# Altium integrated library Analog Devices MEMS Inertial Sensors.IntLib: 109 symbols (part 2 of 6)
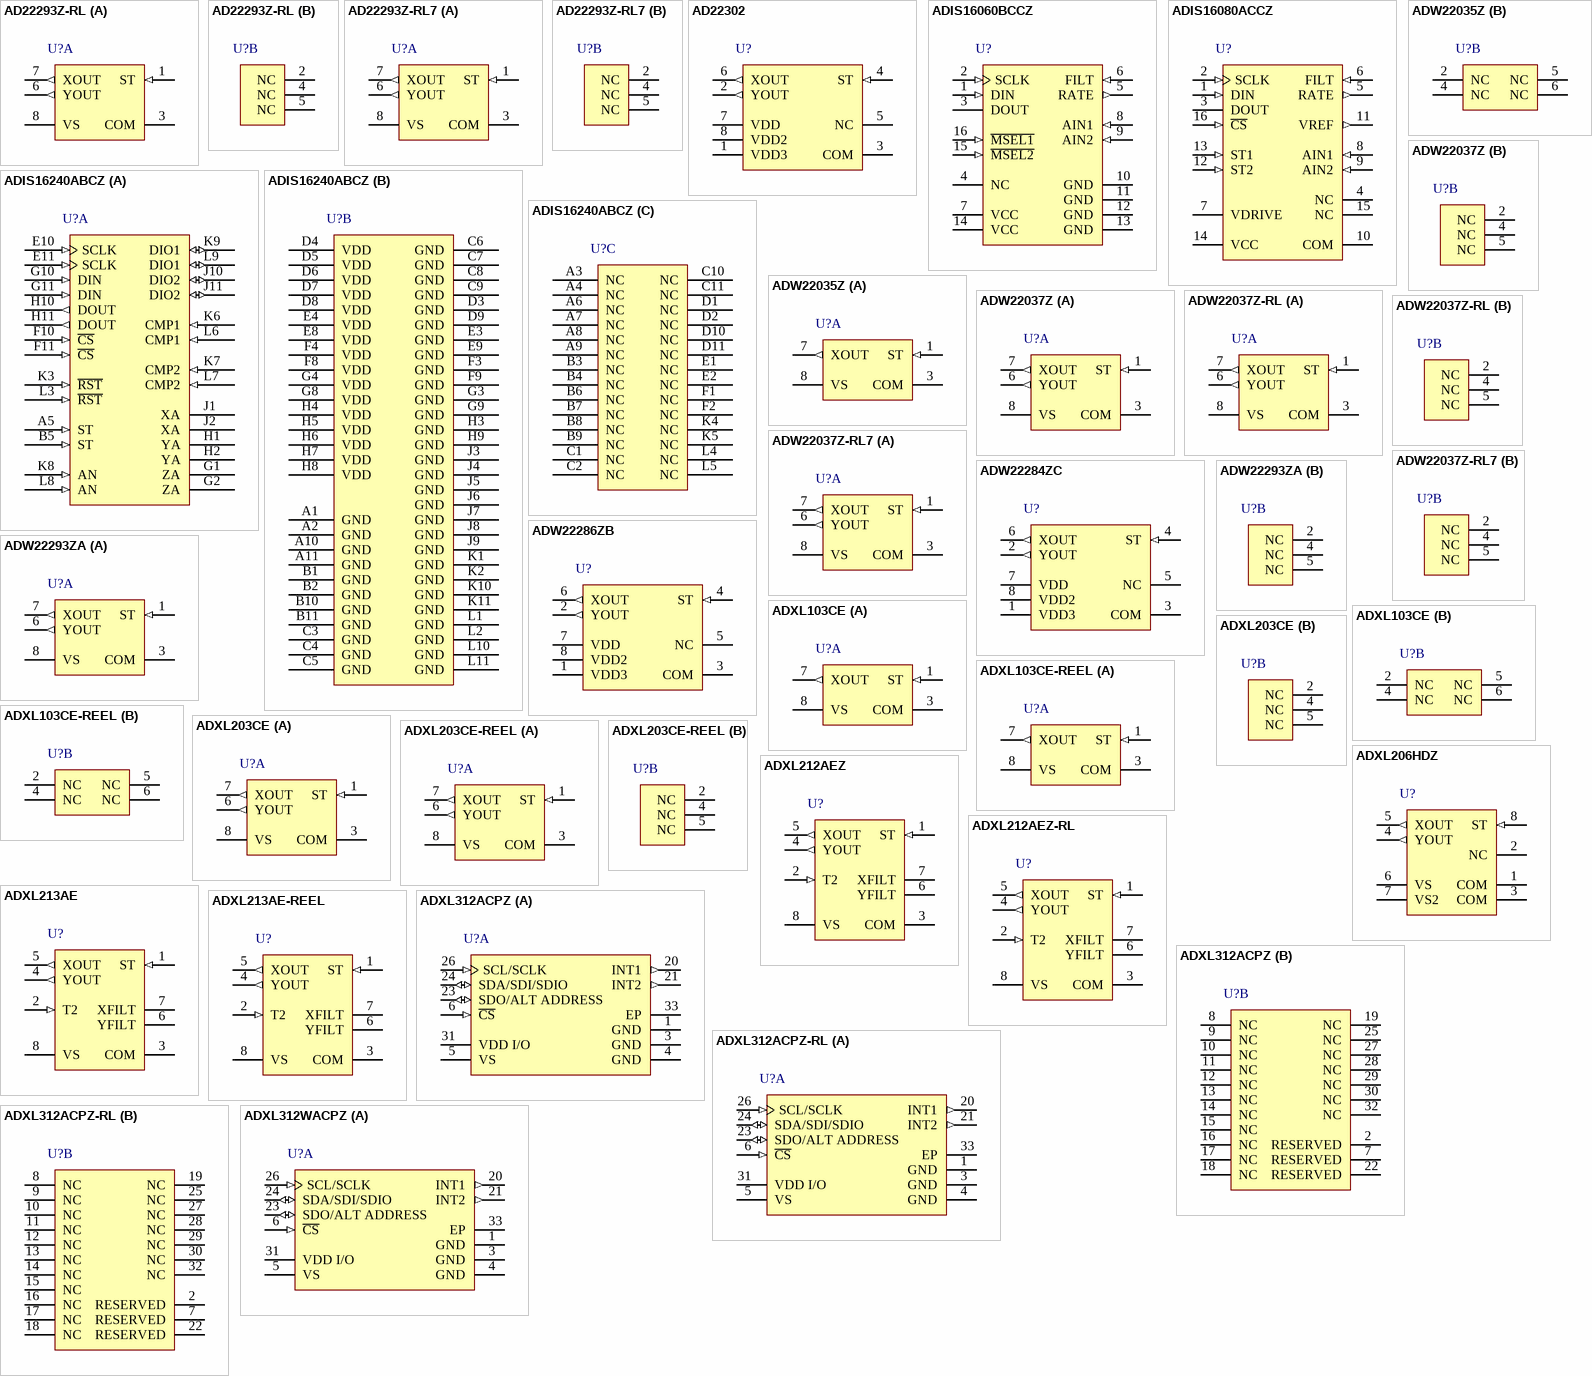
[diagram p6: symbols AD22293Z-RL to ADXL312WACPZ]

## ADIS16240ABCZ
designator U?
Low Power Programmable Impact Sensor and Recorder with SPI, 1.6 KHz BW, Industrial, 112-pin BGA, Tray; Manufacturer: Analog Devices; PartNumber: ADIS16240ABCZ; -3dB Bandwidth: 1.6 KHz; Output Type: Digital; Sensing Axis: X, Y, Z; Sensitivity: 51.4 mg/LSB; Voltage Supply (V): 2.4 to 3.6; DatasheetVersion: Rev. C; PackageVersion: Rev. C, 08/2012; PackageReference: BC-112-2; PackageDescription: 112-Ball Chip Scale Package Ball Grid Array, 12 x 12 mm Body, 1 mm Pitch; Supplier 1: Digi-Key; Supplier Part Number 1: ADIS16240ABCZ-ND; Supplier 2: Farnell; Supplier Part Number 2: 2124657; Supplier 3: Newark; Supplier Part Number 3: 08R6618; Supplier 4: Mouser; Supplier Part Number 4: 584-ADIS16240ABCZ; Packing: Tray; Mounting Technology: Surface Mount; Code_JEDEC: MO-192; ComponentLink1Description: Manufacturer URL; ComponentLink1URL: http://www.analog.com/en/index.html; ComponentLink2Description: Datasheet; ComponentLink2URL: http://www.analog.com/static/imported-files/data_sheets/ADIS16240.pdf; ComponentLink3Description: Package Specification; ComponentLink3URL: http://www.analog.com/static/imported-files/data_sheets/ADIS16240.pdf; ComponentLink4Description: Product URL; ComponentLink4URL: http://www.analog.com/en/mems-sensors/mems-inertial-sensors/adis16240/products/product.html
footprint ADI-BC-112-2 (BGA, 112-Balls, Body 12x12mm, Pitch 1mm)
part A pins: A5 ST (in) "Self-Test Input Control Line", B5 ST (in) "Self-Test Input Control Line", E10 SCLK (in) "SPI Serial Clock", E11 SCLK (in) "SPI Serial Clock", F10 ~{CS} (in) "SPI Chip Select, Active Low", F11 ~{CS} (in) "SPI Chip Select, Active Low", G1 ZA "Z-Axis Accelerometer Filter Pin", G2 ZA "Z-Axis Accelerometer Filter Pin", G10 DIN (in) "SPI Data Input", G11 DIN (in) "SPI Data Input", H1 YA "Y-Axis Accelerometer Filter Pin", H2 YA "Y-Axis Accelerometer Filter Pin", H10 DOUT (out) "SPI Data Output", H11 DOUT (out) "SPI Data Output", J1 XA "X-Axis Accelerometer Filter Pin", J2 XA "X-Axis Accelerometer Filter Pin", J10 DIO2 (io) "Multifunction Digital Input/Output 2", J11 DIO2 (io) "Multifunction Digital Input/Output 2", K3 ~{RST} (in) "Reset, Active Low, No Pull-Up Resistor", K6 CMP1 (in) "Analog Comparator Input 1", K7 CMP2 (in) "Analog Comparator Input 2", K8 AN (in) "Analog Input Channel", K9 DIO1 (io) "Multifunction Digital Input/Output 1", L3 ~{RST} (in) "Reset, Active Low, No Pull-Up Resistor", L6 CMP1 (in) "Analog Comparator Input 1", L7 CMP2 (in) "Analog Comparator Input 2", L8 AN (in) "Analog Input Channel", L9 DIO1 (io) "Multifunction Digital Input/Output 1"
part B pins: A1 GND (power) "Ground", A2 GND (power) "Ground", A10 GND (power) "Ground", A11 GND (power) "Ground", B1 GND (power) "Ground", B2 GND (power) "Ground", B10 GND (power) "Ground", B11 GND (power) "Ground", C3 GND (power) "Ground", C4 GND (power) "Ground", C5 GND (power) "Ground", C6 GND (power) "Ground", C7 GND (power) "Ground", C8 GND (power) "Ground", C9 GND (power) "Ground", D3 GND (power) "Ground", D4 VDD (power) "Power Supply, 3.3 V", D5 VDD (power) "Power Supply, 3.3 V", D6 VDD (power) "Power Supply, 3.3 V", D7 VDD (power) "Power Supply, 3.3 V", D8 VDD (power) "Power Supply, 3.3 V", D9 GND (power) "Ground", E3 GND (power) "Ground", E4 VDD (power) "Power Supply, 3.3 V", E8 VDD (power) "Power Supply, 3.3 V", E9 GND (power) "Ground", F3 GND (power) "Ground", F4 VDD (power) "Power Supply, 3.3 V", F8 VDD (power) "Power Supply, 3.3 V", F9 GND (power) "Ground", G3 GND (power) "Ground", G4 VDD (power) "Power Supply, 3.3 V", G8 VDD (power) "Power Supply, 3.3 V", G9 GND (power) "Ground", H3 GND (power) "Ground", H4 VDD (power) "Power Supply, 3.3 V", H5 VDD (power) "Power Supply, 3.3 V", H6 VDD (power) "Power Supply, 3.3 V", H7 VDD (power) "Power Supply, 3.3 V", H8 VDD (power) "Power Supply, 3.3 V", H9 GND (power) "Ground", J3 GND (power) "Ground", J4 GND (power) "Ground", J5 GND (power) "Ground", J6 GND (power) "Ground", J7 GND (power) "Ground", J8 GND (power) "Ground", J9 GND (power) "Ground", K1 GND (power) "Ground", K2 GND (power) "Ground", K10 GND (power) "Ground", K11 GND (power) "Ground", L1 GND (power) "Ground", L2 GND (power) "Ground", L10 GND (power) "Ground", L11 GND (power) "Ground"
part C pins: A3 NC "No Connect", A4 NC "No Connect", A6 NC "No Connect", A7 NC "No Connect", A8 NC "No Connect", A9 NC "No Connect", B3 NC "No Connect", B4 NC "No Connect", B6 NC "No Connect", B7 NC "No Connect", B8 NC "No Connect", B9 NC "No Connect", C1 NC "No Connect", C2 NC "No Connect", C10 NC "No Connect", C11 NC "No Connect", D1 NC "No Connect", D2 NC "No Connect", D10 NC "No Connect", D11 NC "No Connect", E1 NC "No Connect", E2 NC "No Connect", F1 NC "No Connect", F2 NC "No Connect", K4 NC "No Connect", K5 NC "No Connect", L4 NC "No Connect", L5 NC "No Connect"

## ADW22035Z
designator U?
Precision +/-18 g Single-Axis iMEMS(R) Accelerometer with Analog Output, 2.5 KHz BW, Industrial, 8-pin LCC, Tube; Manufacturer: Analog Devices; PartNumber: ADW22035Z; # of Axes: 1; -3dB Bandwidth: 2.5 KHz; Automotive Qualified: Yes; Sensitivity: 100 mV/g; Supply Current: 700 uA; Voltage Supply (V): 3 to 6; DatasheetVersion: Rev. D; PackageVersion: 05-21-2010-D, 05/2010; PackageReference: E-8-1; PackageDescription: 8-Pin Ceramic Leadless Chip Carrier, 5 x 5 mm Body, 1.27 mm Pitch; Supplier 1: Mouser; Supplier Part Number 1: N/A; Output Type: Analog; Packing: Tube; Mounting Technology: Surface Mount; ComponentLink1Description: Manufacturer URL; ComponentLink1URL: http://www.analog.com/en/index.html; ComponentLink2Description: Datasheet; ComponentLink2URL: http://www.analog.com/static/imported-files/data_sheets/ADXL103_203.pdf; ComponentLink3Description: Package Specification; ComponentLink3URL: http:/www.analog.com/static/imported-files/packages/PKG_PDF/LCC(E)/E_8_1.pdf; ComponentLink4Description: Product URL; ComponentLink4URL: http://www.analog.com/en/mems-sensors/mems-inertial-sensors/adxl103/products/product.html
footprint ADI-E-8-1_V (LCC, 8-Leads, Body 5x5mm, Pitch 1.27mm)
part A pins: 1 ST (in) "Self Test", 3 COM (power) "Common", 7 XOUT (out) "X Channel Output", 8 VS (power) "3 V to 6 V"
part B pins: 2 NC "Do Not Connect", 4 NC "Do Not Connect", 5 NC "Do Not Connect", 6 NC "Do Not Connect"

## ADW22037Z
designator U?
Precision +/-18 g Dual-Axis iMEMS(R) Accelerometer with Analog Output, 2.5 KHz BW, Industrial, 8-pin LCC, Tube; Manufacturer: Analog Devices; PartNumber: ADW22037Z; # of Axes: 2; -3dB Bandwidth: 2.5 KHz; Sensitivity: 100 mV/g; Supply Current: 700 uA; Voltage Supply (V): 3 to 6; DatasheetVersion: Rev. D; PackageVersion: 05-21-2010-D, 05/2010; PackageReference: E-8-1; PackageDescription: 8-Pin Ceramic Leadless Chip Carrier, 5 x 5 mm Body, 1.27 mm Pitch; Supplier 1: Mouser; Supplier Part Number 1: N/A; Output Type: Analog; Packing: Tube; Mounting Technology: Surface Mount; ComponentLink1Description: Manufacturer URL; ComponentLink1URL: http://www.analog.com/en/index.html; ComponentLink2Description: Datasheet; ComponentLink2URL: http://www.analog.com/static/imported-files/data_sheets/ADXL103_203.pdf; ComponentLink3Description: Package Specification; ComponentLink3URL: http:/www.analog.com/static/imported-files/packages/PKG_PDF/LCC(E)/E_8_1.pdf; ComponentLink4Description: Product URL; ComponentLink4URL: http://www.analog.com/en/mems-sensors/mems-inertial-sensors/adxl203/products/product.html
footprint ADI-E-8-1_V (LCC, 8-Leads, Body 5x5mm, Pitch 1.27mm)
part A pins: 1 ST (in) "Self Test", 3 COM (power) "Common", 6 YOUT (out) "Y Channel Output", 7 XOUT (out) "X Channel Output", 8 VS (power) "3 V to 6 V"
part B pins: 2 NC "Do Not Connect", 4 NC "Do Not Connect", 5 NC "Do Not Connect"

## ADW22037Z-RL
designator U?
Precision +/-18 g Dual-Axis iMEMS(R) Accelerometer with Analog Output, 2.5 KHz BW, Industrial, 8-pin LCC, Reel; Manufacturer: Analog Devices; PartNumber: ADW22037Z-RL; # of Axes: 2; -3dB Bandwidth: 2.5 KHz; Sensitivity: 100 mV/g; Supply Current: 700 uA; Voltage Supply (V): 3 to 6; DatasheetVersion: Rev. D; PackageVersion: 05-21-2010-D, 05/2010; PackageReference: E-8-1; PackageDescription: 8-Pin Ceramic Leadless Chip Carrier, 5 x 5 mm Body, 1.27 mm Pitch; Supplier 1: Mouser; Supplier Part Number 1: N/A; Output Type: Analog; Packing: Reel; Mounting Technology: Surface Mount; ComponentLink1Description: Manufacturer URL; ComponentLink1URL: http://www.analog.com/en/index.html; ComponentLink2Description: Datasheet; ComponentLink2URL: http://www.analog.com/static/imported-files/data_sheets/ADXL103_203.pdf; ComponentLink3Description: Package Specification; ComponentLink3URL: http:/www.analog.com/static/imported-files/packages/PKG_PDF/LCC(E)/E_8_1.pdf; ComponentLink4Description: Product URL; ComponentLink4URL: http://www.analog.com/en/mems-sensors/mems-inertial-sensors/adxl203/products/product.html
footprint ADI-E-8-1_V (LCC, 8-Leads, Body 5x5mm, Pitch 1.27mm)
part A pins: 1 ST (in) "Self Test", 3 COM (power) "Common", 6 YOUT (out) "Y Channel Output", 7 XOUT (out) "X Channel Output", 8 VS (power) "3 V to 6 V"
part B pins: 2 NC "Do Not Connect", 4 NC "Do Not Connect", 5 NC "Do Not Connect"

## ADW22037Z-RL7
designator U?
Precision +/-18 g Dual-Axis iMEMS(R) Accelerometer with Analog Output, 2.5 KHz BW, Industrial, 8-pin LCC, Reel; Manufacturer: Analog Devices; PartNumber: ADW22037Z-RL7; # of Axes: 2; -3dB Bandwidth: 2.5 KHz; Sensitivity: 100 mV/g; Supply Current: 700 uA; Voltage Supply (V): 3 to 6; DatasheetVersion: Rev. D; PackageVersion: 05-21-2010-D, 05/2010; PackageReference: E-8-1; PackageDescription: 8-Pin Ceramic Leadless Chip Carrier, 5 x 5 mm Body, 1.27 mm Pitch; Supplier 1: Mouser; Supplier Part Number 1: N/A; Output Type: Analog; Packing: Reel; Mounting Technology: Surface Mount; ComponentLink1Description: Manufacturer URL; ComponentLink1URL: http://www.analog.com/en/index.html; ComponentLink2Description: Datasheet; ComponentLink2URL: http://www.analog.com/static/imported-files/data_sheets/ADXL103_203.pdf; ComponentLink3Description: Package Specification; ComponentLink3URL: http:/www.analog.com/static/imported-files/packages/PKG_PDF/LCC(E)/E_8_1.pdf; ComponentLink4Description: Product URL; ComponentLink4URL: http://www.analog.com/en/mems-sensors/mems-inertial-sensors/adxl203/products/product.html
footprint ADI-E-8-1_V (LCC, 8-Leads, Body 5x5mm, Pitch 1.27mm)
part A pins: 1 ST (in) "Self Test", 3 COM (power) "Common", 6 YOUT (out) "Y Channel Output", 7 XOUT (out) "X Channel Output", 8 VS (power) "3 V to 6 V"
part B pins: 2 NC "Do Not Connect", 4 NC "Do Not Connect", 5 NC "Do Not Connect"

## ADW22284ZC
designator U?
Small, Low Power, Dual-Axis High-g, IMEMS(R) Accelerometer with Analog Output, 400 Hz BW, Industrial, 8-pin LCC, Reel; Manufacturer: Analog Devices; PartNumber: ADW22284ZC; # of Axes: 2; -3dB Bandwidth: 400 Hz; Automotive Qualified: Yes; Sensitivity: 55 mV/g; Supply Current: 2.2 mA; Voltage Supply (V): 4.75 to 5.25; DatasheetVersion: Rev. B; PackageVersion: 05-21-2010-D, 05/2010; PackageReference: E-8-1; PackageDescription: 8-Pin Ceramic Leadless Chip Carrier, 5 x 5 mm Body, 1.27 mm Pitch; Supplier 1: Mouser; Supplier Part Number 1: N/A; Output Type: Analog; Packing: Reel; Mounting Technology: Surface Mount; ComponentLink1Description: Manufacturer URL; ComponentLink1URL: http://www.analog.com/en/index.html; ComponentLink2Description: Datasheet; ComponentLink2URL: http://www.analog.com/static/imported-files/data_sheets/ADXL278.pdf; ComponentLink3Description: Package Specification; ComponentLink3URL: http:/www.analog.com/static/imported-files/packages/PKG_PDF/LCC(E)/E_8_1.pdf; ComponentLink4Description: Product URL; ComponentLink4URL: http://www.analog.com/en/mems-sensors/mems-inertial-sensors/adxl278/products/product.html
footprint ADI-E-8-1_V (LCC, 8-Leads, Body 5x5mm, Pitch 1.27mm)
pins: 1 VDD3 (power) "3.5 V to 6 V", 2 YOUT (out) "Y Channel Output", 3 COM (power) "Common", 4 ST (in) "Self-Test", 5 NC "Do Not Connect", 6 XOUT (out) "X Channel Output", 7 VDD (power) "3.5 V to 6 V", 8 VDD2 (power) "3.5 V to 6 V"

## ADW22286ZB
designator U?
Small, Low Power, Dual-Axis High-g, IMEMS(R) Accelerometer with Analog Output, 400 Hz BW, Industrial, 8-pin LCC, Reel; Manufacturer: Analog Devices; PartNumber: ADW22286ZB; # of Axes: 2; -3dB Bandwidth: 400 Hz; Automotive Qualified: Yes; Sensitivity: 27 mV/g; Supply Current: 2.2 mA; Voltage Supply (V): 4.75 to 5.25; DatasheetVersion: Rev. B; PackageVersion: 05-21-2010-D, 05/2010; PackageReference: E-8-1; PackageDescription: 8-Pin Ceramic Leadless Chip Carrier, 5 x 5 mm Body, 1.27 mm Pitch; Supplier 1: Mouser; Supplier Part Number 1: N/A; Output Type: Analog; Packing: Reel; Mounting Technology: Surface Mount; ComponentLink1Description: Manufacturer URL; ComponentLink1URL: http://www.analog.com/en/index.html; ComponentLink2Description: Datasheet; ComponentLink2URL: http://www.analog.com/static/imported-files/data_sheets/ADXL278.pdf; ComponentLink3Description: Package Specification; ComponentLink3URL: http:/www.analog.com/static/imported-files/packages/PKG_PDF/LCC(E)/E_8_1.pdf; ComponentLink4Description: Product URL; ComponentLink4URL: http://www.analog.com/en/mems-sensors/mems-inertial-sensors/adxl278/products/product.html
footprint ADI-E-8-1_V (LCC, 8-Leads, Body 5x5mm, Pitch 1.27mm)
pins: 1 VDD3 (power) "3.5 V to 6 V", 2 YOUT (out) "Y Channel Output", 3 COM (power) "Common", 4 ST (in) "Self-Test", 5 NC "Do Not Connect", 6 XOUT (out) "X Channel Output", 7 VDD (power) "3.5 V to 6 V", 8 VDD2 (power) "3.5 V to 6 V"

## ADW22293ZA
designator U?
Precision +/-5 g Dual-Axis iMEMS(R) Accelerometer with Analog Output, 2.5 KHz BW, Industrial, 8-pin LCC, Reel; Manufacturer: Analog Devices; PartNumber: ADW22293ZA; # of Axes: 2; -3dB Bandwidth: 2.5 KHz; Sensitivity: 312 mV/g; Supply Current: 700 uA; Voltage Supply (V): 3 to 6; DatasheetVersion: Rev. D; PackageVersion: 05-21-2010-D, 05/2010; PackageReference: E-8-1; PackageDescription: 8-Pin Ceramic Leadless Chip Carrier, 5 x 5 mm Body, 1.27 mm Pitch; Supplier 1: Mouser; Supplier Part Number 1: N/A; Output Type: Analog; Packing: Reel; Mounting Technology: Surface Mount; ComponentLink1Description: Manufacturer URL; ComponentLink1URL: http://www.analog.com/en/index.html; ComponentLink2Description: Datasheet; ComponentLink2URL: http://www.analog.com/static/imported-files/data_sheets/ADXL103_203.pdf; ComponentLink3Description: Package Specification; ComponentLink3URL: http:/www.analog.com/static/imported-files/packages/PKG_PDF/LCC(E)/E_8_1.pdf; ComponentLink4Description: Product URL; ComponentLink4URL: http://www.analog.com/en/mems-sensors/mems-inertial-sensors/adxl203/products/product.html
footprint ADI-E-8-1_V (LCC, 8-Leads, Body 5x5mm, Pitch 1.27mm)
part A pins: 1 ST (in) "Self Test", 3 COM (power) "Common", 6 YOUT (out) "Y Channel Output", 7 XOUT (out) "X Channel Output", 8 VS (power) "3 V to 6 V"
part B pins: 2 NC "Do Not Connect", 4 NC "Do Not Connect", 5 NC "Do Not Connect"

## ADXL103CE
designator U?
Precision +/-1.7 g Single-Axis iMEMS(R) Accelerometer with Analog Output, 2.5 KHz BW, Industrial, 8-pin LCC, Tube; Manufacturer: Analog Devices; PartNumber: ADXL103CE; # of Axes: 1; -3dB Bandwidth: 2.5 KHz; Automotive Qualified: Yes; Sensitivity: 1000 mV/g; Supply Current: 700 uA; Voltage Supply (V): 3 to 6; DatasheetVersion: Rev. D; PackageVersion: 05-21-2010-D, 05/2010; PackageReference: E-8-1; PackageDescription: 8-Pin Ceramic Leadless Chip Carrier, 5 x 5 mm Body, 1.27 mm Pitch; Supplier 1: Digi-Key; Supplier Part Number 1: ADXL103CE-ND; Supplier 2: Newark; Supplier Part Number 2: 19M8780; Supplier 3: Mouser; Supplier Part Number 3: 584-ADXL103CE; Output Type: Analog; Packing: Tube; Mounting Technology: Surface Mount; ComponentLink1Description: Manufacturer URL; ComponentLink1URL: http://www.analog.com/en/index.html; ComponentLink2Description: Datasheet; ComponentLink2URL: http://www.analog.com/static/imported-files/data_sheets/ADXL103_203.pdf; ComponentLink3Description: Package Specification; ComponentLink3URL: http:/www.analog.com/static/imported-files/packages/PKG_PDF/LCC(E)/E_8_1.pdf; ComponentLink4Description: Product URL; ComponentLink4URL: http://www.analog.com/en/mems-sensors/mems-inertial-sensors/adxl103/products/product.html
footprint ADI-E-8-1_V (LCC, 8-Leads, Body 5x5mm, Pitch 1.27mm)
part A pins: 1 ST (in) "Self Test", 3 COM (power) "Common", 7 XOUT (out) "X Channel Output", 8 VS (power) "3 V to 6 V"
part B pins: 2 NC "Do Not Connect", 4 NC "Do Not Connect", 5 NC "Do Not Connect", 6 NC "Do Not Connect"

## ADXL103CE-REEL
designator U?
Precision +/-1.7 g Single-Axis iMEMS(R) Accelerometer with Analog Output, 2.5 KHz BW, Industrial, 8-pin LCC, Reel; Manufacturer: Analog Devices; PartNumber: ADXL103CE-REEL; # of Axes: 1; -3dB Bandwidth: 2.5 KHz; Automotive Qualified: Yes; Sensitivity: 1000 mV/g; Supply Current: 700 uA; Voltage Supply (V): 3 to 6; DatasheetVersion: Rev. D; PackageVersion: 05-21-2010-D, 05/2010; PackageReference: E-8-1; PackageDescription: 8-Pin Ceramic Leadless Chip Carrier, 5 x 5 mm Body, 1.27 mm Pitch; Supplier 1: Digi-Key; Supplier Part Number 1: ADXL103CE-REELTR-ND; Supplier 2: Digi-Key; Supplier Part Number 2: ADXL103CE-REELCT-ND; Supplier 3: Digi-Key; Supplier Part Number 3: ADXL103CE-REELDKR-ND; Supplier 4: Newark; Supplier Part Number 4: 59K3368; Supplier 5: Mouser; Supplier Part Number 5: 584-ADXL103CE-R; Output Type: Analog; Packing: Reel; Mounting Technology: Surface Mount; ComponentLink1Description: Manufacturer URL; ComponentLink1URL: http://www.analog.com/en/index.html; ComponentLink2Description: Datasheet; ComponentLink2URL: http://www.analog.com/static/imported-files/data_sheets/ADXL103_203.pdf; ComponentLink3Description: Package Specification; ComponentLink3URL: http:/www.analog.com/static/imported-files/packages/PKG_PDF/LCC(E)/E_8_1.pdf; ComponentLink4Description: Product URL; ComponentLink4URL: http://www.analog.com/en/mems-sensors/mems-inertial-sensors/adxl103/products/product.html
footprint ADI-E-8-1_V (LCC, 8-Leads, Body 5x5mm, Pitch 1.27mm)
part A pins: 1 ST (in) "Self Test", 3 COM (power) "Common", 7 XOUT (out) "X Channel Output", 8 VS (power) "3 V to 6 V"
part B pins: 2 NC "Do Not Connect", 4 NC "Do Not Connect", 5 NC "Do Not Connect", 6 NC "Do Not Connect"

## ADXL203CE
designator U?
Precision +/-1.7 g Dual-Axis iMEMS(R) Accelerometer with Analog Output, 2.5 KHz BW, Industrial, 8-pin LCC, Tube; Manufacturer: Analog Devices; PartNumber: ADXL203CE; # of Axes: 2; -3dB Bandwidth: 2.5 KHz; Sensitivity: 1000 mV/g; Supply Current: 700 uA; Voltage Supply (V): 3 to 6; DatasheetVersion: Rev. D; PackageVersion: 05-21-2010-D, 05/2010; PackageReference: E-8-1; PackageDescription: 8-Pin Ceramic Leadless Chip Carrier, 5 x 5 mm Body, 1.27 mm Pitch; Supplier 1: Digi-Key; Supplier Part Number 1: ADXL203CE-ND; Supplier 2: Farnell; Supplier Part Number 2: 2102538; Supplier 3: Newark; Supplier Part Number 3: 30M0177; Supplier 4: Mouser; Supplier Part Number 4: 584-ADXL203CE; Output Type: Analog; Packing: Tube; Mounting Technology: Surface Mount; ComponentLink1Description: Manufacturer URL; ComponentLink1URL: http://www.analog.com/en/index.html; ComponentLink2Description: Datasheet; ComponentLink2URL: http://www.analog.com/static/imported-files/data_sheets/ADXL103_203.pdf; ComponentLink3Description: Package Specification; ComponentLink3URL: http:/www.analog.com/static/imported-files/packages/PKG_PDF/LCC(E)/E_8_1.pdf; ComponentLink4Description: Product URL; ComponentLink4URL: http://www.analog.com/en/mems-sensors/mems-inertial-sensors/adxl203/products/product.html
footprint ADI-E-8-1_V (LCC, 8-Leads, Body 5x5mm, Pitch 1.27mm)
part A pins: 1 ST (in) "Self Test", 3 COM (power) "Common", 6 YOUT (out) "Y Channel Output", 7 XOUT (out) "X Channel Output", 8 VS (power) "3 V to 6 V"
part B pins: 2 NC "Do Not Connect", 4 NC "Do Not Connect", 5 NC "Do Not Connect"

## ADXL203CE-REEL
designator U?
Precision +/-1.7 g Dual-Axis iMEMS(R) Accelerometer with Analog Output, 2.5 KHz BW, Industrial, 8-pin LCC, Reel; Manufacturer: Analog Devices; PartNumber: ADXL203CE-REEL; # of Axes: 2; -3dB Bandwidth: 2.5 KHz; Sensitivity: 1000 mV/g; Supply Current: 700 uA; Voltage Supply (V): 3 to 6; DatasheetVersion: Rev. D; PackageVersion: 05-21-2010-D, 05/2010; PackageReference: E-8-1; PackageDescription: 8-Pin Ceramic Leadless Chip Carrier, 5 x 5 mm Body, 1.27 mm Pitch; Supplier 1: Digi-Key; Supplier Part Number 1: ADXL203CE-REELTR-ND; Supplier 2: Digi-Key; Supplier Part Number 2: ADXL203CE-REELCT-ND; Supplier 3: Digi-Key; Supplier Part Number 3: ADXL203CE-REELDKR-ND; Supplier 4: Newark; Supplier Part Number 4: 59K3369; Supplier 5: Mouser; Supplier Part Number 5: 584-ADXL203CE-R; Output Type: Analog; Packing: Reel; Mounting Technology: Surface Mount; ComponentLink1Description: Manufacturer URL; ComponentLink1URL: http://www.analog.com/en/index.html; ComponentLink2Description: Datasheet; ComponentLink2URL: http://www.analog.com/static/imported-files/data_sheets/ADXL103_203.pdf; ComponentLink3Description: Package Specification; ComponentLink3URL: http:/www.analog.com/static/imported-files/packages/PKG_PDF/LCC(E)/E_8_1.pdf; ComponentLink4Description: Product URL; ComponentLink4URL: http://www.analog.com/en/mems-sensors/mems-inertial-sensors/adxl203/products/product.html
footprint ADI-E-8-1_V (LCC, 8-Leads, Body 5x5mm, Pitch 1.27mm)
part A pins: 1 ST (in) "Self Test", 3 COM (power) "Common", 6 YOUT (out) "Y Channel Output", 7 XOUT (out) "X Channel Output", 8 VS (power) "3 V to 6 V"
part B pins: 2 NC "Do Not Connect", 4 NC "Do Not Connect", 5 NC "Do Not Connect"

## ADXL206HDZ
designator U?
Precision +/-5 g Dual-Axis High Temperature iMEMS Accelerometer with Analog Output, 2.5 KHz BW, Industrial, 8-pin DIP, Tube; Manufacturer: Analog Devices; PartNumber: ADXL206HDZ; # of Axes: 2; -3dB Bandwidth: 2.5 KHz; Sensitivity: 312 mV/g; Supply Current: 700 uA; Voltage Supply (V): 4.75 to 5.25; DatasheetVersion: Rev. 0; PackageVersion: 07-08-2010-B, 07/2010; PackageReference: D-8-1; PackageDescription: 8-Pin Side-Brazed Ceramic Dual In-Line Package, Row spacing 7.62 mm, 13.208 x 7.366 mm Body, 2.54 mm Pitch; Supplier 1: Digi-Key; Supplier Part Number 1: ADXL206HDZ-ND; Supplier 2: Farnell; Supplier Part Number 2: 1903661; Supplier 3: Newark; Supplier Part Number 3: 47T4682; Supplier 4: Mouser; Supplier Part Number 4: 584-ADXL206HDZ; Output Type: Analog; Packing: Tube; Mounting Technology: Through Hole; ComponentLink1Description: Manufacturer URL; ComponentLink1URL: http://www.analog.com/en/index.html; ComponentLink2Description: Datasheet; ComponentLink2URL: http://www.analog.com/static/imported-files/data_sheets/ADXL206.PDF; ComponentLink3Description: Package Specification; ComponentLink3URL: http://www.analog.com/static/imported-files/packages/PKG_PDF/SB_CerDip(D)/D_8_1.pdf; ComponentLink4Description: Product URL; ComponentLink4URL: http://www.analog.com/en/mems-sensors/mems-inertial-sensors/adxl206/products/product.html
footprint ADI-D-8-1 (DIP, 8-Leads, Body 13.208x7.366mm, Pitch 2.54mm)
pins: 1 COM (power) "Common.", 2 NC "No Connect. Do not connect to this pin.", 3 COM (power) "Common.", 4 YOUT (out) "Y Channel Output.", 5 XOUT (out) "X Channel Output.", 6 VS (power) "Supply.", 7 VS2 (power) "Supply. Must be connected to VS.", 8 ST (in) "Self-Test."

## ADXL212AEZ
designator U?
Low Cost +/-2 g Dual Axis Accelerometer with Digital Output, 500 Hz BW, Industrial, 8-pin LCC, Tube; Manufacturer: Analog Devices; PartNumber: ADXL212AEZ; # of Axes: 2; -3dB Bandwidth: 500 Hz; Sensitivity: 12.5 %/g; Supply Current: 700 uA; Voltage Supply (V): 3 to 5.25; DatasheetVersion: Rev. 0; PackageVersion: 05-21-2010-D, 05/2010; PackageReference: E-8-1; PackageDescription: 8-Pin Ceramic Leadless Chip Carrier, 5 x 5 mm Body, 1.27 mm Pitch; Supplier 1: Digi-Key; Supplier Part Number 1: ADXL212AEZ-ND; Supplier 2: Farnell; Supplier Part Number 2: 2009263; Supplier 3: Newark; Supplier Part Number 3: 61T7403; Supplier 4: Newark; Supplier Part Number 4: 51T1992; Supplier 5: Mouser; Supplier Part Number 5: 584-ADXL212AEZ; Output Type: Digital; Packing: Tube; Mounting Technology: Surface Mount; ComponentLink1Description: Manufacturer URL; ComponentLink1URL: http://www.analog.com/en/index.html; ComponentLink2Description: Datasheet; ComponentLink2URL: http://www.analog.com/static/imported-files/data_sheets/ADXL212.pdf; ComponentLink3Description: Package Specification; ComponentLink3URL: http:/www.analog.com/static/imported-files/packages/PKG_PDF/LCC(E)/E_8_1.pdf; ComponentLink4Description: Product URL; ComponentLink4URL: http://www.analog.com/en/mems-sensors/mems-inertial-sensors/adxl212/products/product.html
footprint ADI-E-8-1_V (LCC, 8-Leads, Body 5x5mm, Pitch 1.27mm)
pins: 1 ST (in) "Self Test", 2 T2 (in) "Frequency Set. Connect the RSET resistor to ground. t2 = RSET/125 M ohm See the Theory of Operation section for details.", 3 COM (power) "Common", 4 YOUT (out) "Y Channel Output", 5 XOUT (out) "X Channel Output", 6 YFILT "Y Channel Filter Pin", 7 XFILT "X Channel Filter Pin", 8 VS (power) "Voltage Supply. 3 V to 5.25 V."

## ADXL212AEZ-RL
designator U?
Low Cost +/-2 g Dual Axis Accelerometer with Digital Output, 500 Hz BW, Industrial, 8-pin LCC, Reel; Manufacturer: Analog Devices; PartNumber: ADXL212AEZ-RL; # of Axes: 2; -3dB Bandwidth: 500 Hz; Sensitivity: 12.5 %/g; Supply Current: 700 uA; Voltage Supply (V): 3 to 5.25; DatasheetVersion: Rev. 0; PackageVersion: 05-21-2010-D, 05/2010; PackageReference: E-8-1; PackageDescription: 8-Pin Ceramic Leadless Chip Carrier, 5 x 5 mm Body, 1.27 mm Pitch; Supplier 1: Digi-Key; Supplier Part Number 1: ADXL212AEZ-RL-ND; Supplier 2: Mouser; Supplier Part Number 2: 584-ADXL212AEZ-R; Output Type: Digital; Packing: Reel; Mounting Technology: Surface Mount; ComponentLink1Description: Manufacturer URL; ComponentLink1URL: http://www.analog.com/en/index.html; ComponentLink2Description: Datasheet; ComponentLink2URL: http://www.analog.com/static/imported-files/data_sheets/ADXL212.pdf; ComponentLink3Description: Package Specification; ComponentLink3URL: http:/www.analog.com/static/imported-files/packages/PKG_PDF/LCC(E)/E_8_1.pdf; ComponentLink4Description: Product URL; ComponentLink4URL: http://www.analog.com/en/mems-sensors/mems-inertial-sensors/adxl212/products/product.html
footprint ADI-E-8-1_V (LCC, 8-Leads, Body 5x5mm, Pitch 1.27mm)
pins: 1 ST (in) "Self Test", 2 T2 (in) "Frequency Set. Connect the RSET resistor to ground. t2 = RSET/125 M ohm See the Theory of Operation section for details.", 3 COM (power) "Common", 4 YOUT (out) "Y Channel Output", 5 XOUT (out) "X Channel Output", 6 YFILT "Y Channel Filter Pin", 7 XFILT "X Channel Filter Pin", 8 VS (power) "Voltage Supply. 3 V to 5.25 V."

## ADXL213AE
designator U?
Low Cost +/-1.2 g Dual-Axis Accelerometer with PWM Output, 2.5 KHz BW, Industrial, 8-pin LCC, Tube; Manufacturer: Analog Devices; PartNumber: ADXL213AE; # of Axes: 2; -3dB Bandwidth: 2.5 KHz; Sensitivity: 30 %/g; Supply Current: 700 uA; Voltage Supply (V): 3 to 6; DatasheetVersion: Rev. A; PackageVersion: 05-21-2010-D, 05/2010; PackageReference: E-8-1; PackageDescription: 8-Pin Ceramic Leadless Chip Carrier, 5 x 5 mm Body, 1.27 mm Pitch; Supplier 1: Digi-Key; Supplier Part Number 1: ADXL213AE-ND; Supplier 2: Farnell; Supplier Part Number 2: 2305762; Supplier 3: Newark; Supplier Part Number 3: 28M9819; Supplier 4: Mouser; Supplier Part Number 4: 584-ADXL213AE; Output Type: PWM; Packing: Tube; Mounting Technology: Surface Mount; ComponentLink1Description: Manufacturer URL; ComponentLink1URL: http://www.analog.com/en/index.html; ComponentLink2Description: Datasheet; ComponentLink2URL: http://www.analog.com/static/imported-files/data_sheets/ADXL213.pdf; ComponentLink3Description: Package Specification; ComponentLink3URL: http:/www.analog.com/static/imported-files/packages/PKG_PDF/LCC(E)/E_8_1.pdf; ComponentLink4Description: Product URL; ComponentLink4URL: http://www.analog.com/en/mems-sensors/mems-inertial-sensors/adxl213/products/product.html
footprint ADI-E-8-1_V (LCC, 8-Leads, Body 5x5mm, Pitch 1.27mm)
pins: 1 ST (in) "Self Test", 2 T2 (in) "Frequency Set. Connect the RSET resistor to ground. t2 = RSET/125 M ohm See the Theory of Operation section for details.", 3 COM (power) "Common", 4 YOUT (out) "Y Channel Output", 5 XOUT (out) "X Channel Output", 6 YFILT "Y Channel Filter Pin", 7 XFILT "X Channel Filter Pin", 8 VS (power) "Voltage Supply. 3 V to 5.25 V."

## ADXL213AE-REEL
designator U?
Low Cost +/-1.2 g Dual-Axis Accelerometer with PWM Output, 2.5 KHz BW, Industrial, 8-pin LCC, Reel; Manufacturer: Analog Devices; PartNumber: ADXL213AE-REEL; # of Axes: 2; -3dB Bandwidth: 2.5 KHz; Sensitivity: 30 %/g; Supply Current: 700 uA; Voltage Supply (V): 3 to 6; DatasheetVersion: Rev. A; PackageVersion: 05-21-2010-D, 05/2010; PackageReference: E-8-1; PackageDescription: 8-Pin Ceramic Leadless Chip Carrier, 5 x 5 mm Body, 1.27 mm Pitch; Supplier 1: Digi-Key; Supplier Part Number 1: ADXL213AE-REELTR-ND; Supplier 2: Digi-Key; Supplier Part Number 2: ADXL213AE-REELCT-ND; Supplier 3: Digi-Key; Supplier Part Number 3: ADXL213AE-REELDKR-ND; Supplier 4: Newark; Supplier Part Number 4: 23K2001; Supplier 5: Mouser; Supplier Part Number 5: 584-ADXL213AE-R; Output Type: PWM; Packing: Reel; Mounting Technology: Surface Mount; ComponentLink1Description: Manufacturer URL; ComponentLink1URL: http://www.analog.com/en/index.html; ComponentLink2Description: Datasheet; ComponentLink2URL: http://www.analog.com/static/imported-files/data_sheets/ADXL213.pdf; ComponentLink3Description: Package Specification; ComponentLink3URL: http:/www.analog.com/static/imported-files/packages/PKG_PDF/LCC(E)/E_8_1.pdf; ComponentLink4Description: Product URL; ComponentLink4URL: http://www.analog.com/en/mems-sensors/mems-inertial-sensors/adxl213/products/product.html
footprint ADI-E-8-1_V (LCC, 8-Leads, Body 5x5mm, Pitch 1.27mm)
pins: 1 ST (in) "Self Test", 2 T2 (in) "Frequency Set. Connect the RSET resistor to ground. t2 = RSET/125 M ohm See the Theory of Operation section for details.", 3 COM (power) "Common", 4 YOUT (out) "Y Channel Output", 5 XOUT (out) "X Channel Output", 6 YFILT "Y Channel Filter Pin", 7 XFILT "X Channel Filter Pin", 8 VS (power) "Voltage Supply. 3 V to 5.25 V."

## ADXL312ACPZ
designator U?
3-Axis, +/-1.5 g / +/-3 g / +/-6 g / +/-12 g Digital Accelerometer with Digital Output, 1.6KHz BW, Industrial, 32-pin QFN, Tube; Manufacturer: Analog Devices; PartNumber: ADXL312ACPZ; # of Axes: 3; Automotive Qualified: Yes; Sensitivity: 345 LSB/g; Supply Current: 170 uA; Voltage Supply (V): 2.0 to 3.6; DatasheetVersion: Rev. 0; PackageVersion: 12-03-2010-B, 12/2010; PackageReference: CP-32-17; PackageDescription: 32-Pin Lead Frame Chip Scale Package, 5 x 5 mm Body, 0.5 mm Pitch; Supplier 1: Digi-Key; Supplier Part Number 1: ADXL312ACPZ-ND; Supplier 2: Farnell; Supplier Part Number 2: 1897079; Supplier 3: Farnell; Supplier Part Number 3: 2132281; Supplier 4: Newark; Supplier Part Number 4: 31T9298; Supplier 5: Mouser; Supplier Part Number 5: 584-ADXL312ACPZ; -3dB Bandwidth: 1.6 KHz; Output Type: Digital; Packing: Tube; Mounting Technology: Surface Mount; Code_JEDEC: MO-254-LJJD; ComponentLink1Description: Manufacturer URL; ComponentLink1URL: http://www.analog.com/en/index.html; ComponentLink2Description: Datasheet; ComponentLink2URL: http://www.analog.com/static/imported-files/data_sheets/ADXL312.pdf; ComponentLink3Description: Package Specification; ComponentLink3URL: http:/www.analog.com/static/imported-files/packages/PKG_PDF/LFCSP(CP)/CP_32_17.pdf; ComponentLink4Description: Product URL; ComponentLink4URL: http://www.analog.com/en/mems-sensors/mems-accelerometers/adxl312/products/product.html
footprint ADI-CP-32-17_N (QFN, 32-Leads, Body 5x5mm, Pitch 0.5mm, Thermal Pad 3.6x3.6mm, IPC Medium Density)
footprint ADI-CP-32-17_L (QFN, 32-Leads, Body 5x5mm, Pitch 0.5mm, Thermal Pad 3.6x3.6mm, IPC High Density)
footprint ADI-CP-32-17_M (QFN, 32-Leads, Body 5x5mm, Pitch 0.5mm, Thermal Pad 3.6x3.6mm, IPC Low Density)
part A pins: 1 GND (power) "This pin must be connected to ground.", 3 GND (power) "This pin must be connected to ground.", 4 GND (power) "This pin must be connected to ground.", 5 VS (power) "Supply Voltage.", 6 ~{CS} (in) "Chip Select.", 20 INT1 (out) "Interrupt 1 Output.", 21 INT2 (out) "Interrupt 2 Output.", 23 SDO/ALT ADDRESS (io) "Serial Data Out, Alternate I2C Address Select.", 24 SDA/SDI/SDIO (io) "Serial Data (I2C), Serial Data In (SPI 4-Wire), Serial Data In/Out (SPI 3-Wire).", 26 SCL/SCLK (in) "Serial Communications Clock.", 31 VDD I/O (power) "Digital Interface Supply Voltage.", 33 EP (power) "The exposed pad must be soldered to the ground plane."
part B pins: 2 RESERVED "Reserved. This pin must be connected to VS or left open.", 7 RESERVED "Reserved. This pin must be left open.", 8 NC "No Connect. Do not connect to this pin.", 9 NC "No Connect. Do not connect to this pin.", 10 NC "No Connect. Do not connect to this pin.", 11 NC "No Connect. Do not connect to this pin.", 12 NC "No Connect. Do not connect to this pin.", 13 NC "No Connect. Do not connect to this pin.", 14 NC "No Connect. Do not connect to this pin.", 15 NC "No Connect. Do not connect to this pin.", 16 NC "No Connect. Do not connect to this pin.", 17 NC "No Connect. Do not connect to this pin.", 18 NC "No Connect. Do not connect to this pin.", 19 NC "No Connect. Do not connect to this pin.", 22 RESERVED "Reserved. This pin must be connected to GND or left open.", 25 NC "No Connect. Do not connect to this pin.", 27 NC "No Connect. Do not connect to this pin.", 28 NC "No Connect. Do not connect to this pin.", 29 NC "No Connect. Do not connect to this pin.", 30 NC "No Connect. Do not connect to this pin.", 32 NC "No Connect."

## ADXL312ACPZ-RL
designator U?
3-Axis, +/-1.5 g / +/-3 g / +/-6 g / +/-12 g Digital Accelerometer with Digital Output, 1.6KHz BW, Industrial, 32-pin QFN, Reel; Manufacturer: Analog Devices; PartNumber: ADXL312ACPZ-RL; # of Axes: 3; Automotive Qualified: Yes; Sensitivity: 345 LSB/g; Supply Current: 170 uA; Voltage Supply (V): 2.0 to 3.6; DatasheetVersion: Rev. 0; PackageVersion: 12-03-2010-B, 12/2010; PackageReference: CP-32-17; PackageDescription: 32-Pin Lead Frame Chip Scale Package, 5 x 5 mm Body, 0.5 mm Pitch; Supplier 1: Digi-Key; Supplier Part Number 1: ADXL312ACPZ-RL-ND; Supplier 2: Mouser; Supplier Part Number 2: 584-ADXL312ACPZ-R; -3dB Bandwidth: 1.6 KHz; Output Type: Digital; Packing: Reel; Mounting Technology: Surface Mount; Code_JEDEC: MO-254-LJJD; ComponentLink1Description: Manufacturer URL; ComponentLink1URL: http://www.analog.com/en/index.html; ComponentLink2Description: Datasheet; ComponentLink2URL: http://www.analog.com/static/imported-files/data_sheets/ADXL312.pdf; ComponentLink3Description: Package Specification; ComponentLink3URL: http:/www.analog.com/static/imported-files/packages/PKG_PDF/LFCSP(CP)/CP_32_17.pdf; ComponentLink4Description: Product URL; ComponentLink4URL: http://www.analog.com/en/mems-sensors/mems-accelerometers/adxl312/products/product.html
footprint ADI-CP-32-17_N (QFN, 32-Leads, Body 5x5mm, Pitch 0.5mm, Thermal Pad 3.6x3.6mm, IPC Medium Density)
footprint ADI-CP-32-17_L (QFN, 32-Leads, Body 5x5mm, Pitch 0.5mm, Thermal Pad 3.6x3.6mm, IPC High Density)
footprint ADI-CP-32-17_M (QFN, 32-Leads, Body 5x5mm, Pitch 0.5mm, Thermal Pad 3.6x3.6mm, IPC Low Density)
part A pins: 1 GND (power) "This pin must be connected to ground.", 3 GND (power) "This pin must be connected to ground.", 4 GND (power) "This pin must be connected to ground.", 5 VS (power) "Supply Voltage.", 6 ~{CS} (in) "Chip Select.", 20 INT1 (out) "Interrupt 1 Output.", 21 INT2 (out) "Interrupt 2 Output.", 23 SDO/ALT ADDRESS (io) "Serial Data Out, Alternate I2C Address Select.", 24 SDA/SDI/SDIO (io) "Serial Data (I2C), Serial Data In (SPI 4-Wire), Serial Data In/Out (SPI 3-Wire).", 26 SCL/SCLK (in) "Serial Communications Clock.", 31 VDD I/O (power) "Digital Interface Supply Voltage.", 33 EP (power) "The exposed pad must be soldered to the ground plane."
part B pins: 2 RESERVED "Reserved. This pin must be connected to VS or left open.", 7 RESERVED "Reserved. This pin must be left open.", 8 NC "No Connect. Do not connect to this pin.", 9 NC "No Connect. Do not connect to this pin.", 10 NC "No Connect. Do not connect to this pin.", 11 NC "No Connect. Do not connect to this pin.", 12 NC "No Connect. Do not connect to this pin.", 13 NC "No Connect. Do not connect to this pin.", 14 NC "No Connect. Do not connect to this pin.", 15 NC "No Connect. Do not connect to this pin.", 16 NC "No Connect. Do not connect to this pin.", 17 NC "No Connect. Do not connect to this pin.", 18 NC "No Connect. Do not connect to this pin.", 19 NC "No Connect. Do not connect to this pin.", 22 RESERVED "Reserved. This pin must be connected to GND or left open.", 25 NC "No Connect. Do not connect to this pin.", 27 NC "No Connect. Do not connect to this pin.", 28 NC "No Connect. Do not connect to this pin.", 29 NC "No Connect. Do not connect to this pin.", 30 NC "No Connect. Do not connect to this pin.", 32 NC "No Connect."

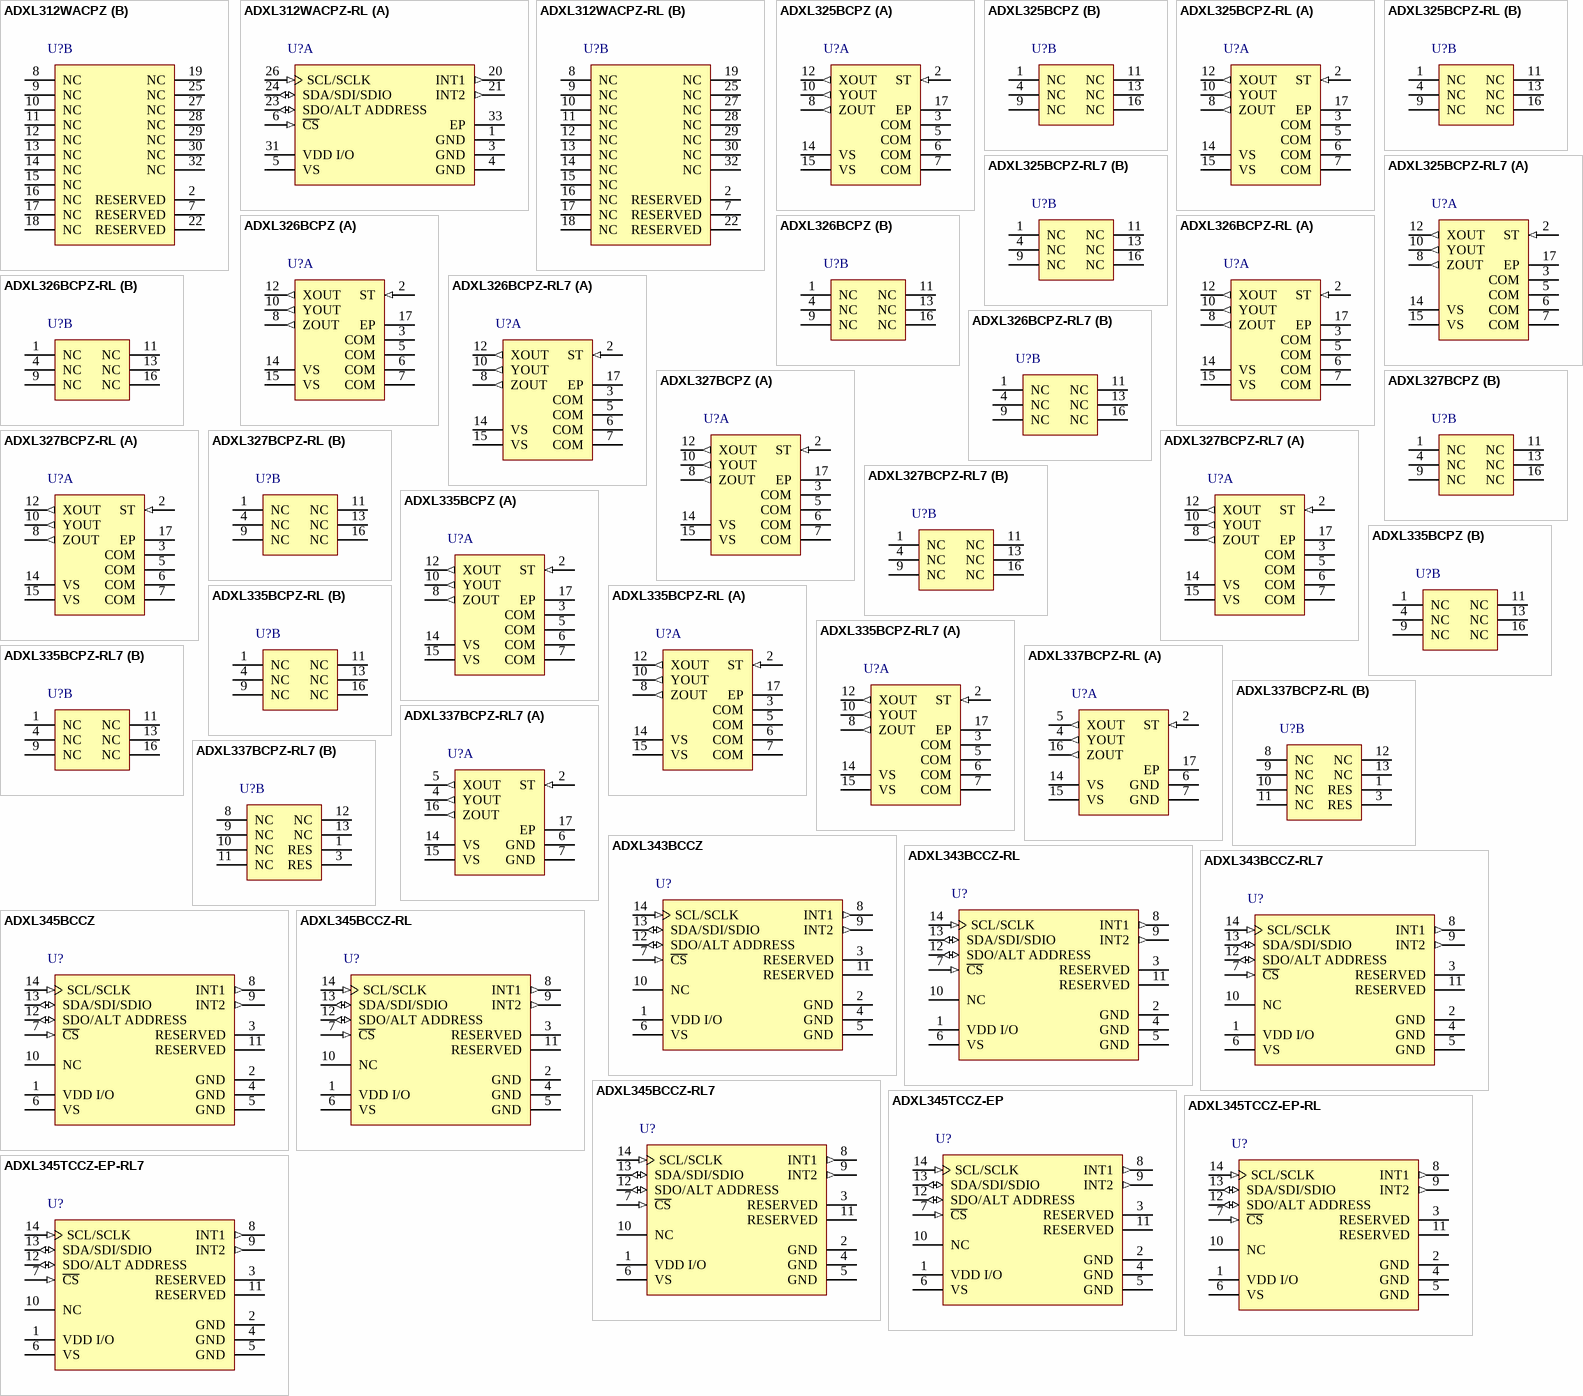
[diagram p2: symbols ADXL312WACPZ to ADXL345TCCZ-EP-RL7]

## ADXL312WACPZ
designator U?
3-Axis, +/-1.5 g / +/-3 g / +/-6 g / +/-12 g Digital Accelerometer with Digital Output, 1.6KHz BW, Industrial, 32-pin QFN, Tube; Manufacturer: Analog Devices; PartNumber: ADXL312WACPZ; # of Axes: 3; Automotive Qualified: Yes; Sensitivity: 345 LSB/g; Supply Current: 170 uA; Voltage Supply (V): 2.0 to 3.6; DatasheetVersion: Rev. 0; PackageVersion: 12-03-2010-B, 12/2010; PackageReference: CP-32-17; PackageDescription: 32-Pin Lead Frame Chip Scale Package, 5 x 5 mm Body, 0.5 mm Pitch; Supplier 1: Mouser; Supplier Part Number 1: N/A; -3dB Bandwidth: 1.6 KHz; Output Type: Digital; Packing: Tube; Mounting Technology: Surface Mount; Code_JEDEC: MO-254-LJJD; ComponentLink1Description: Manufacturer URL; ComponentLink1URL: http://www.analog.com/en/index.html; ComponentLink2Description: Datasheet; ComponentLink2URL: http://www.analog.com/static/imported-files/data_sheets/ADXL312.pdf; ComponentLink3Description: Package Specification; ComponentLink3URL: http:/www.analog.com/static/imported-files/packages/PKG_PDF/LFCSP(CP)/CP_32_17.pdf; ComponentLink4Description: Product URL; ComponentLink4URL: http://www.analog.com/en/mems-sensors/mems-accelerometers/adxl312/products/product.html
footprint ADI-CP-32-17_N (QFN, 32-Leads, Body 5x5mm, Pitch 0.5mm, Thermal Pad 3.6x3.6mm, IPC Medium Density)
footprint ADI-CP-32-17_L (QFN, 32-Leads, Body 5x5mm, Pitch 0.5mm, Thermal Pad 3.6x3.6mm, IPC High Density)
footprint ADI-CP-32-17_M (QFN, 32-Leads, Body 5x5mm, Pitch 0.5mm, Thermal Pad 3.6x3.6mm, IPC Low Density)
part A pins: 1 GND (power) "This pin must be connected to ground.", 3 GND (power) "This pin must be connected to ground.", 4 GND (power) "This pin must be connected to ground.", 5 VS (power) "Supply Voltage.", 6 ~{CS} (in) "Chip Select.", 20 INT1 (out) "Interrupt 1 Output.", 21 INT2 (out) "Interrupt 2 Output.", 23 SDO/ALT ADDRESS (io) "Serial Data Out, Alternate I2C Address Select.", 24 SDA/SDI/SDIO (io) "Serial Data (I2C), Serial Data In (SPI 4-Wire), Serial Data In/Out (SPI 3-Wire).", 26 SCL/SCLK (in) "Serial Communications Clock.", 31 VDD I/O (power) "Digital Interface Supply Voltage.", 33 EP (power) "The exposed pad must be soldered to the ground plane."
part B pins: 2 RESERVED "Reserved. This pin must be connected to VS or left open.", 7 RESERVED "Reserved. This pin must be left open.", 8 NC "No Connect. Do not connect to this pin.", 9 NC "No Connect. Do not connect to this pin.", 10 NC "No Connect. Do not connect to this pin.", 11 NC "No Connect. Do not connect to this pin.", 12 NC "No Connect. Do not connect to this pin.", 13 NC "No Connect. Do not connect to this pin.", 14 NC "No Connect. Do not connect to this pin.", 15 NC "No Connect. Do not connect to this pin.", 16 NC "No Connect. Do not connect to this pin.", 17 NC "No Connect. Do not connect to this pin.", 18 NC "No Connect. Do not connect to this pin.", 19 NC "No Connect. Do not connect to this pin.", 22 RESERVED "Reserved. This pin must be connected to GND or left open.", 25 NC "No Connect. Do not connect to this pin.", 27 NC "No Connect. Do not connect to this pin.", 28 NC "No Connect. Do not connect to this pin.", 29 NC "No Connect. Do not connect to this pin.", 30 NC "No Connect. Do not connect to this pin.", 32 NC "No Connect."

## ADXL312WACPZ-RL
designator U?
3-Axis, +/-1.5 g / +/-3 g / +/-6 g / +/-12 g Digital Accelerometer with Digital Output, 1.6KHz BW, Industrial, 32-pin QFN, Reel; Manufacturer: Analog Devices; PartNumber: ADXL312WACPZ-RL; # of Axes: 3; Automotive Qualified: Yes; Sensitivity: 345 LSB/g; Supply Current: 170 uA; Voltage Supply (V): 2.0 to 3.6; DatasheetVersion: Rev. 0; PackageVersion: 12-03-2010-B, 12/2010; PackageReference: CP-32-17; PackageDescription: 32-Pin Lead Frame Chip Scale Package, 5 x 5 mm Body, 0.5 mm Pitch; Supplier 1: Mouser; Supplier Part Number 1: N/A; -3dB Bandwidth: 1.6 KHz; Output Type: Digital; Packing: Reel; Mounting Technology: Surface Mount; Code_JEDEC: MO-254-LJJD; ComponentLink1Description: Manufacturer URL; ComponentLink1URL: http://www.analog.com/en/index.html; ComponentLink2Description: Datasheet; ComponentLink2URL: http://www.analog.com/static/imported-files/data_sheets/ADXL312.pdf; ComponentLink3Description: Package Specification; ComponentLink3URL: http:/www.analog.com/static/imported-files/packages/PKG_PDF/LFCSP(CP)/CP_32_17.pdf; ComponentLink4Description: Product URL; ComponentLink4URL: http://www.analog.com/en/mems-sensors/mems-accelerometers/adxl312/products/product.html
footprint ADI-CP-32-17_N (QFN, 32-Leads, Body 5x5mm, Pitch 0.5mm, Thermal Pad 3.6x3.6mm, IPC Medium Density)
footprint ADI-CP-32-17_L (QFN, 32-Leads, Body 5x5mm, Pitch 0.5mm, Thermal Pad 3.6x3.6mm, IPC High Density)
footprint ADI-CP-32-17_M (QFN, 32-Leads, Body 5x5mm, Pitch 0.5mm, Thermal Pad 3.6x3.6mm, IPC Low Density)
part A pins: 1 GND (power) "This pin must be connected to ground.", 3 GND (power) "This pin must be connected to ground.", 4 GND (power) "This pin must be connected to ground.", 5 VS (power) "Supply Voltage.", 6 ~{CS} (in) "Chip Select.", 20 INT1 (out) "Interrupt 1 Output.", 21 INT2 (out) "Interrupt 2 Output.", 23 SDO/ALT ADDRESS (io) "Serial Data Out, Alternate I2C Address Select.", 24 SDA/SDI/SDIO (io) "Serial Data (I2C), Serial Data In (SPI 4-Wire), Serial Data In/Out (SPI 3-Wire).", 26 SCL/SCLK (in) "Serial Communications Clock.", 31 VDD I/O (power) "Digital Interface Supply Voltage.", 33 EP (power) "The exposed pad must be soldered to the ground plane."
part B pins: 2 RESERVED "Reserved. This pin must be connected to VS or left open.", 7 RESERVED "Reserved. This pin must be left open.", 8 NC "No Connect. Do not connect to this pin.", 9 NC "No Connect. Do not connect to this pin.", 10 NC "No Connect. Do not connect to this pin.", 11 NC "No Connect. Do not connect to this pin.", 12 NC "No Connect. Do not connect to this pin.", 13 NC "No Connect. Do not connect to this pin.", 14 NC "No Connect. Do not connect to this pin.", 15 NC "No Connect. Do not connect to this pin.", 16 NC "No Connect. Do not connect to this pin.", 17 NC "No Connect. Do not connect to this pin.", 18 NC "No Connect. Do not connect to this pin.", 19 NC "No Connect. Do not connect to this pin.", 22 RESERVED "Reserved. This pin must be connected to GND or left open.", 25 NC "No Connect. Do not connect to this pin.", 27 NC "No Connect. Do not connect to this pin.", 28 NC "No Connect. Do not connect to this pin.", 29 NC "No Connect. Do not connect to this pin.", 30 NC "No Connect. Do not connect to this pin.", 32 NC "No Connect."

## ADXL325BCPZ
designator U?
Small, Low Power, 3-Axis +/-5 g Accelerometer with Analog Output, 1.6 KHz BW, Industrial, 16-pin QFN, Tray; Manufacturer: Analog Devices; PartNumber: ADXL325BCPZ; # of Axes: 3; -3dB Bandwidth: 1.6 KHz; Sensitivity: 174 mV/g; Supply Current: 350 uA; Voltage Supply (V): 1.8 to 3.6; DatasheetVersion: Rev. 0; PackageVersion: 072606-0, 07/2006; PackageReference: CP-16-5a; PackageDescription: 16-Pin Lead Frame Chip Scale Package, 4 x 4 mm Body, 0.65 mm Pitch; Supplier 1: Digi-Key; Supplier Part Number 1: ADXL325BCPZ-ND; Supplier 2: Farnell; Supplier Part Number 2: 1786063; Supplier 3: Newark; Supplier Part Number 3: 05R6561; Supplier 4: Mouser; Supplier Part Number 4: 584-ADXL325BCPZ; Output Type: Analog; Packing: Tray; Mounting Technology: Surface Mount; ComponentLink1Description: Manufacturer URL; ComponentLink1URL: http://www.analog.com/en/index.html; ComponentLink2Description: Datasheet; ComponentLink2URL: http://www.analog.com/static/imported-files/data_sheets/ADXL325.pdf; ComponentLink3Description: Package Specification; ComponentLink3URL: http:/www.analog.com/static/imported-files/packages/45789401034275374892178CP_16_5a.pdf; ComponentLink4Description: Product URL; ComponentLink4URL: http://www.analog.com/en/mems-sensors/mems-inertial-sensors/adxl325/products/product.html
footprint ADI-CP-16-5a_N (QFN, 16-Leads, Body 4x4mm, Pitch 0.65mm, Thermal Pad 1.75x1.75mm, IPC Medium Density)
footprint ADI-CP-16-5a_L (QFN, 16-Leads, Body 4x4mm, Pitch 0.65mm, Thermal Pad 1.75x1.75mm, IPC High Density)
footprint ADI-CP-16-5a_M (QFN, 16-Leads, Body 4x4mm, Pitch 0.65mm, Thermal Pad 1.75x1.75mm, IPC Low Density)
part A pins: 2 ST (in) "Self-Test.", 3 COM (power) "Common.", 5 COM (power) "Common.", 6 COM (power) "Common.", 7 COM (power) "Common.", 8 ZOUT (out) "Z Channel Output.", 10 YOUT (out) "Y Channel Output.", 12 XOUT (out) "X Channel Output.", 14 VS (power) "Supply Voltage (1.8 V to 3.6 V).", 15 VS (power) "Supply Voltage (1.8 V to 3.6 V).", 17 EP "Not internally connected. Solder for mechanical integrity."
part B pins: 1 NC "No Connect.", 4 NC "No Connect.", 9 NC "No Connect.", 11 NC "No Connect.", 13 NC "No Connect.", 16 NC "No Connect."

## ADXL325BCPZ-RL
designator U?
Small, Low Power, 3-Axis +/-5 g Accelerometer with Analog Output, 1.6 KHz BW, Industrial, 16-pin QFN, Reel; Manufacturer: Analog Devices; PartNumber: ADXL325BCPZ-RL; # of Axes: 3; -3dB Bandwidth: 1.6 KHz; Sensitivity: 174 mV/g; Supply Current: 350 uA; Voltage Supply (V): 1.8 to 3.6; DatasheetVersion: Rev. 0; PackageVersion: 072606-0, 07/2006; PackageReference: CP-16-5a; PackageDescription: 16-Pin Lead Frame Chip Scale Package, 4 x 4 mm Body, 0.65 mm Pitch; Supplier 1: Digi-Key; Supplier Part Number 1: ADXL325BCPZ-RL-ND; Supplier 2: Mouser; Supplier Part Number 2: 584-ADXL325BCPZ-R; Output Type: Analog; Packing: Reel; Mounting Technology: Surface Mount; ComponentLink1Description: Manufacturer URL; ComponentLink1URL: http://www.analog.com/en/index.html; ComponentLink2Description: Datasheet; ComponentLink2URL: http://www.analog.com/static/imported-files/data_sheets/ADXL325.pdf; ComponentLink3Description: Package Specification; ComponentLink3URL: http:/www.analog.com/static/imported-files/packages/45789401034275374892178CP_16_5a.pdf; ComponentLink4Description: Product URL; ComponentLink4URL: http://www.analog.com/en/mems-sensors/mems-inertial-sensors/adxl325/products/product.html
footprint ADI-CP-16-5a_N (QFN, 16-Leads, Body 4x4mm, Pitch 0.65mm, Thermal Pad 1.75x1.75mm, IPC Medium Density)
footprint ADI-CP-16-5a_L (QFN, 16-Leads, Body 4x4mm, Pitch 0.65mm, Thermal Pad 1.75x1.75mm, IPC High Density)
footprint ADI-CP-16-5a_M (QFN, 16-Leads, Body 4x4mm, Pitch 0.65mm, Thermal Pad 1.75x1.75mm, IPC Low Density)
part A pins: 2 ST (in) "Self-Test.", 3 COM (power) "Common.", 5 COM (power) "Common.", 6 COM (power) "Common.", 7 COM (power) "Common.", 8 ZOUT (out) "Z Channel Output.", 10 YOUT (out) "Y Channel Output.", 12 XOUT (out) "X Channel Output.", 14 VS (power) "Supply Voltage (1.8 V to 3.6 V).", 15 VS (power) "Supply Voltage (1.8 V to 3.6 V).", 17 EP "Not internally connected. Solder for mechanical integrity."
part B pins: 1 NC "No Connect.", 4 NC "No Connect.", 9 NC "No Connect.", 11 NC "No Connect.", 13 NC "No Connect.", 16 NC "No Connect."